# Altium integrated library USB_Micro.IntLib: 1 symbol
Pins are listed as number, name and electrical type; pins without a type are passive.

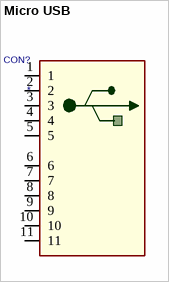
[diagram p0: symbol Micro USB]

## Micro USB
designator CON?
ID: USB - micro B; BUY_LINK: http://www.digikey.com/product-detail/en/10118192-0001LF/609-4613-1-ND/2785378; PDF: http://portal.fciconnect.com/Comergent//fci/drawing/10118192.pdf; PRICE: 0.46000
footprint USB Micro
pins: 1, 2, 3, 4, 5, 6, 7, 8, 9, 10, 11